# Altium schematic symbol library PS2565-1Y-V-A.SchLib: 1 symbol
Pins are listed as number, name and electrical type; pins without a type are passive.

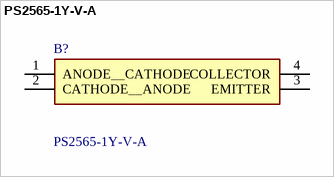
[diagram p0: symbol PS2565-1Y-V-A]

## PS2565-1Y-V-A
designator B?
The PS2565-1 is optically coupled isolators containing GaAs light emitting diodes and an NPN silicon phototransistor. The PS2565-1 is in a plastic DIP (Dual In-line Package) and the PS2565L-1 is lead bending type (Gull-wing) for surface mount. The PS2565L1-1 is lead bending type for long creepage distance. The PS2565L2-1 is lead bending type for long creepage distance (Gull-wing) for surface mount.; Manufacturer_Name: Renesas Electronics; Geometry.Height: 4.55mm; Mouser Part Number: 968-PS2565-1Y-V-A; Mouser Price/Stock: https://www.mouser.co.uk/ProductDetail/Renesas-Electronics/PS2565-1Y-V-A?qs=byeeYqUIh0N82Jp9dFW50g%3D%3D; Manufacturer_Part_Number: PS2565-1Y-V-A; Datasheet Link: https://www.renesas.com/en-us/doc/YOUSYS/document/002/PN10236EJ05V0DS.pdf
footprint DIP762W60P254L460H455Q4N
pins: 1 ANODE__CATHODE, 2 CATHODE__ANODE, 3 EMITTER, 4 COLLECTOR